# Altium schematic symbol library KF接口.SchLib: 4 symbols
Pins are listed as number, name and electrical type; pins without a type are passive.

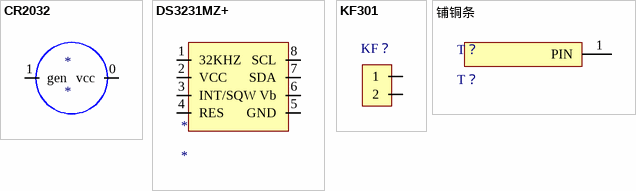
[diagram p0: symbols CR2032 to 铺铜条]

## CR2032
designator *
footprint CR2032座
pins: 0 vcc, 1 gen

## DS3231MZ+
designator *
pins: 1 32KHZ, 2 VCC, 3 INT/SQW, 4 RES, 5 GND, 6 Vb, 7 SDA, 8 SCL

## KF301
designator KF？, comment KF301-5.08-2p  (value not drawn)
footprint KF301-5.0-2P (可拼接端子/6A)
pins: 1, 2

## 铺铜条
designator T？, comment T？
2mm*20的铜条用于焊接
footprint 铺铜条
pins: 1 PIN